# EAGLE library part LCD-ALPHANUMERIC (library Zoli2_2015-02-22)
Aplhanumeric LCD display, 4x20
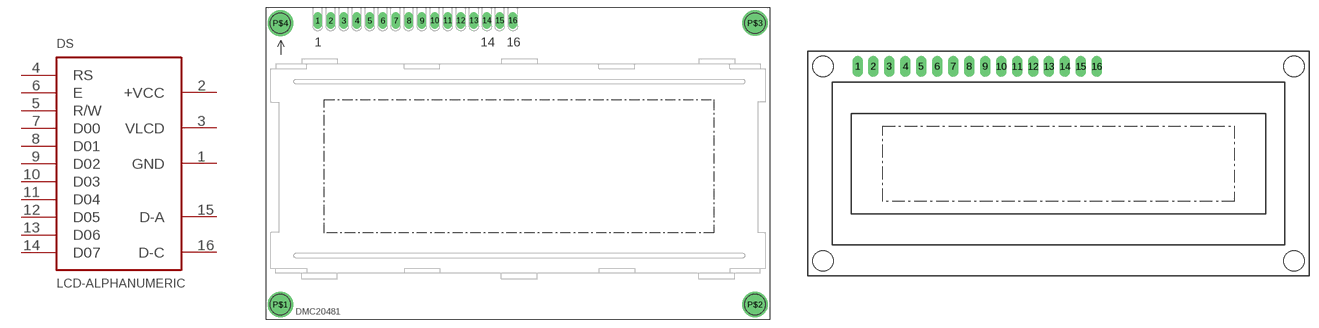
[diagram p9: symbol with the pads of LCD4X20; footprints LCD4X20, LCD2X16]

Designator prefix DS

## LCD-ALPHANUMERIC-4X20  [LCD4X20]
1  GND
2  +VCC
3  VLCD
4  RS
5  R/W
6  E
7  D00
8  D01
9  D02
10  D03
11  D04
12  D05
13  D06
14  D07
15  D-A
16  D-C

## LCD-ALPHANUMERIC-2X16  [LCD2X16]
Pads as for LCD4X20

## LCD-ALPHANUMERIC-HEADER  [LCDHEADER]
Pads as for LCD4X20

## Footprint LCD4X20 (pad centres in mm)
drill 1.016 pad 1.676 long: 1 -39.383,29.21; 2 -36.843,29.21; 3 -34.303,29.21; 4 -31.763,29.21; 5 -29.223,29.21; 6 -26.683,29.21; 7 -24.143,29.21; 8 -21.603,29.21; 9 -19.063,29.21; 10 -16.523,29.21; 11 -13.983,29.21; 12 -11.443,29.21; 13 -8.903,29.21; 14 -6.363,29.21; 15 -3.823,29.21; 16 -1.283,29.21
drill 3.2 pad 5 round: P$1 -46.672,-26.289; P$2 45.936,-26.289; P$3 45.936,28.715; P$4 -46.672,28.702

## Footprint LCD2X16 (pad centres in mm)
Tuxgraphics LCD display 16x2 characters reflective, without background light Source: tuxgr_12x2_r2.pdf
drill 1 pad 1.676 long: 1 -32,15.5; 2 -29.46,15.5; 3 -26.92,15.5; 4 -24.38,15.5; 5 -21.84,15.5; 6 -19.3,15.5; 7 -16.76,15.5; 8 -14.22,15.5; 9 -11.68,15.5; 10 -9.14,15.5; 11 -6.6,15.5; 12 -4.06,15.5; 13 -1.52,15.5; 14 1.02,15.5; 15 3.56,15.5; 16 6.1,15.5
hole 3.2 at -37.5,-15.5
hole 3.2 at 37.5,-15.5
hole 3.2 at -37.5,15.5
hole 3.2 at 37.5,15.5

## Footprint LCDHEADER (pad centres in mm)
drill 1.016 pad 1.676 long: 1 -0.013,0; 2 2.527,0; 3 5.067,0; 4 7.607,0; 5 10.147,0; 6 12.687,0; 7 15.227,0; 8 17.767,0; 9 20.307,0; 10 22.847,0; 11 25.387,0; 12 27.927,0; 13 30.467,0; 14 33.007,0; 15 35.547,0; 16 38.087,0